# Altium schematic symbol library Active.SchLib: 23 symbols
Pins are listed as number, name and electrical type; pins without a type are passive.

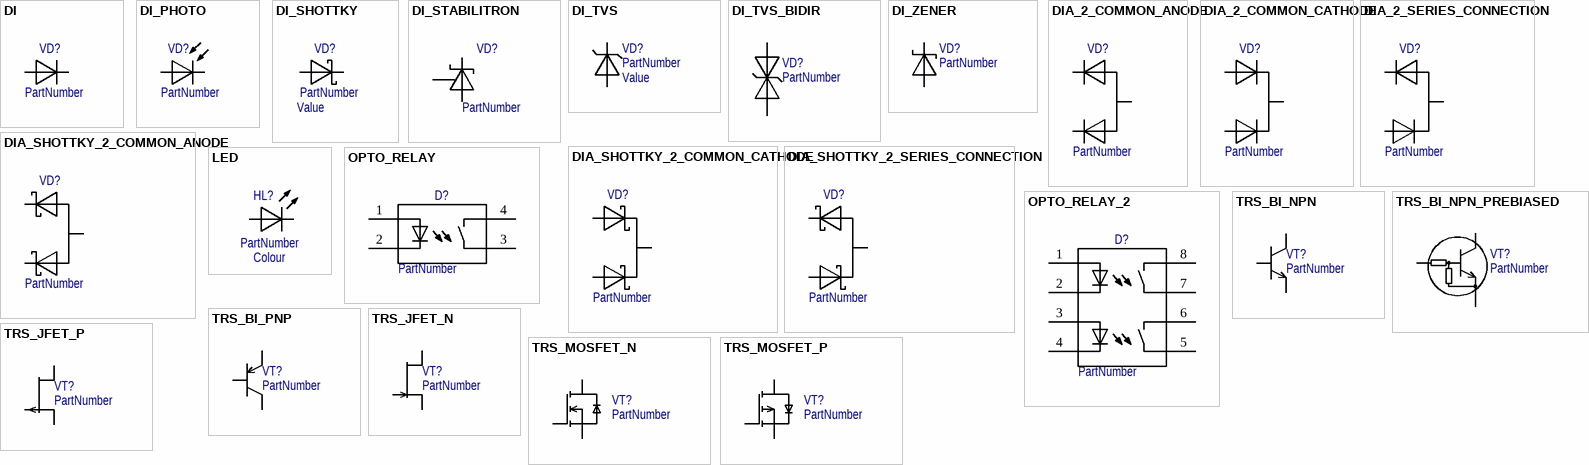
[diagram p0: symbols DI to TRS_MOSFET_P]

## DI
designator VD?  (value not drawn)
Common diode; PartNumber: PartNumber
pins: A, C

## DI_PHOTO
designator VD?  (value not drawn)
Фотодиод (буквенные дезигнаторы A/C); PartNumber: PartNumber
pins: A, C

## DI_SHOTTKY
designator VD?  (value not drawn)
Диод шоттки (дезигнаторы буквенные A/C); Value: Value; PartNumber: PartNumber
pins: A, C

## DI_STABILITRON
designator VD?  (value not drawn)
PartNumber: PartNumber
pins: A, C, REF

## DI_TVS
designator VD?  (value not drawn)
TVS диод (дезигнаторы пинов буквенные A/C); Value: Value; PartNumber: PartNumber
pins: A, C

## DI_TVS_BIDIR
designator VD?  (value not drawn)
TVS диод двунаправленный (дезигнаторы 1/2); PartNumber: PartNumber
pins: 1, 2

## DI_ZENER
designator VD?  (value not drawn)
PartNumber: PartNumber
pins: A, C

## DIA_2_COMMON_ANODE
designator VD?  (value not drawn)
Диодная сборак из двух диодов с общим анодом; PartNumber: PartNumber
pins: 1, 2, 3

## DIA_2_COMMON_CATHODE
designator VD?  (value not drawn)
Диодная сборка из двух диодов с общим катодом; PartNumber: PartNumber
pins: 1, 2, 3

## DIA_2_SERIES_CONNECTION
designator VD?  (value not drawn)
Диодная сборка из двух диодов с последовательным соединением; PartNumber: PartNumber
pins: 1, 2, 3

## DIA_SHOTTKY_2_COMMON_ANODE
designator VD?  (value not drawn)
Диодная сборка из двух диодов Шоттки с общим анодом; PartNumber: PartNumber
pins: 1, 2, 3

## DIA_SHOTTKY_2_COMMON_CATHODE
designator VD?  (value not drawn)
Диодная сборка из двух диодов Шоттки с общим катодом; PartNumber: PartNumber
pins: 1, 2, 3

## DIA_SHOTTKY_2_SERIES_CONNECTION
designator VD?  (value not drawn)
PartNumber: PartNumber
pins: 1, 2, 3

## LED
designator HL?  (value not drawn)
ComponentLink1Description: Datasheet; ComponentLink1URL: Datasheet_link; Voltage: Voltage; Current: Current; Manufacturer: Manufacturer; Case: Case; Colour: Colour; PartNumber: PartNumber
pins: A, C

## OPTO_RELAY
designator D?  (value not drawn)
Оптопара; PartNumber: PartNumber
pins: 1 A, 2 C, 3 Out1, 4 Out2

## OPTO_RELAY_2
designator D?  (value not drawn)
Две оптопары в корпусе; PartNumber: PartNumber
pins: 1 A, 2 C, 3 Out1, 4 Out2, 5 Out3, 6 Out4, 7 Out5, 8 Out6

## TRS_BI_NPN
designator VT?  (value not drawn)
PartNumber: PartNumber
pins: B, C, E

## TRS_BI_NPN_PREBIASED
designator VT?  (value not drawn)
Биполярный NPN транзистор с резисторной подтяжкой базы и ограничением тока (дезигнаторы буквенные B/E/C); PartNumber: PartNumber
pins: B, C, E

## TRS_BI_PNP
designator VT?  (value not drawn)
Биполярный PNP транзистор (дезигнаторы буквенные B/E/C); PartNumber: PartNumber
pins: B, C, E

## TRS_JFET_N
designator VT?  (value not drawn)
JFET N-канальный транзистор (дезигнаторы буквенные G/D/S); PartNumber: PartNumber
pins: D, G, S

## TRS_JFET_P
designator VT?  (value not drawn)
JFET P-канальный транзистор (дезигнаторы буквенные G/D/S); PartNumber: PartNumber
pins: D, G, S

## TRS_MOSFET_N
designator VT?  (value not drawn)
PartNumber: PartNumber
pins: D, G, S

## TRS_MOSFET_P
designator VT?  (value not drawn)
P-канальный MOSFET (дезигнаторы буквенные G/S/D); PartNumber: PartNumber
pins: D, G, S